# Altium schematic symbol library 2024-01-23_20-40-36.SchLib: 1 symbol
Pins are listed as number, name and electrical type; pins without a type are passive.

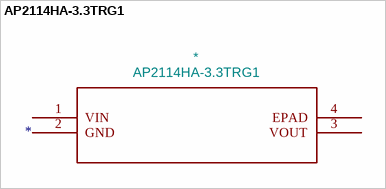
[diagram p0: symbol AP2114HA-3.3TRG1]

## AP2114HA-3.3TRG1
designator *  value AP2114HA-3.3TRG1
ki_fp_filters: SOT-223_DIO SOT-223_DIO-M SOT-223_DIO-L; Footprint: SOT-223_DIO; Supplier: AP2114HA-3.3TRG1; ki_keywords: AP2114HA-3.3TRG1
footprint SOT-223_DIO
pins: 1 VIN, 2 GND, 3 VOUT, 4 EPAD